# EAGLE library part HTRC11001T_03EE,11 (library custom_library)
HITAG reader chip Source: Datasheet <http://www.nxp.com/docs/en/data-sheet/037031.pdf>
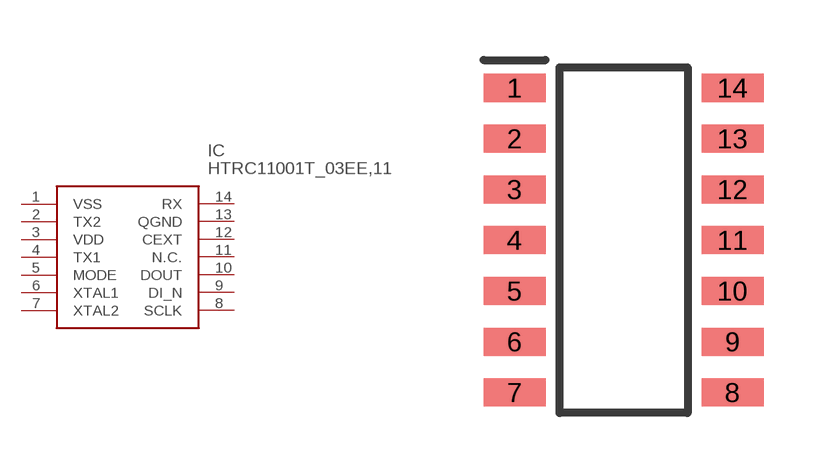
[diagram p14: symbol with the pads of SOIC127P600X175-14N; footprint SOIC127P600X175-14N]

Designator prefix IC

## HTRC11001T_03EE,11 (DESCRIPTION: HITAG reader chip; HEIGHT: 1.75mm; MANUFACTURER_NAME: NXP; MANUFACTURER_PART_NUMBER: HTRC11001T/03EE,11; MOUSER_PART_NUMBER: 771-HTRC11001TD-T; MOUSER_PRICE-STOCK: https://www.mouser.co.uk/ProductDetail/NXP-Semiconductors/HTRC11001T-03EE11?qs=me8TqzrmIYXFfehhhz6%2FBA%3D%3D)  [SOIC127P600X175-14N]
1  VSS
2  TX2
3  VDD
4  TX1
5  MODE
6  XTAL1
7  XTAL2
8  SCLK
9  DI_N
10  DOUT
11  N.C.  nc
12  CEXT
13  QGND
14  RX

## Footprint SOIC127P600X175-14N (pad centres in mm)
SO-14
smd 1.55 x 0.7: 1 -2.725,3.81; 2 -2.725,2.54; 3 -2.725,1.27; 4 -2.725,0; 5 -2.725,-1.27; 6 -2.725,-2.54; 7 -2.725,-3.81; 8 2.725,-3.81; 9 2.725,-2.54; 10 2.725,-1.27; 11 2.725,0; 12 2.725,1.27; 13 2.725,2.54; 14 2.725,3.81